# EAGLE library part TEA1795 (library nxp_60_1_1)
The TEA1795T is a member of the new generation of Synchronous Rectifier (SR) controller ICs for switched mode power supplies. Its high level of integration enables the design of a cost-effective power supply with a minimum number of external components. AAL Eindhoven MK
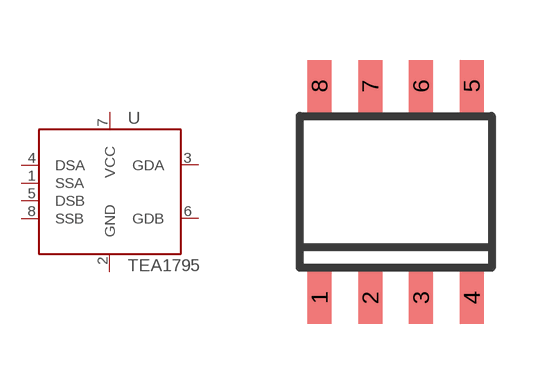
[diagram p23: symbol with the pads of SOT96-1; footprint SOT96-1]

Designator prefix U

## TEA1795T (12NC: 9352 915 64118)  [SOT96-1]
1  SSA  in
2  GND  pwr
3  GDA  out
4  DSA  in
5  DSB  in
6  GDB  out
7  VCC  pwr
8  SSB  in

## Footprint SOT96-1 (pad centres in mm)
SOT96-1 SO8: plastic small outline package; 8 leads; body width 3.9 mm JEDEC: MS-012 IEC: 076E03
smd 0.6 x 1.3: 1 -1.905,-2.65; 2 -0.635,-2.65; 3 0.635,-2.65; 4 1.905,-2.65; 5 1.905,2.65; 6 0.635,2.65; 7 -0.635,2.65; 8 -1.905,2.65